# Altium footprint library PcbLib1.PcbLib: 1 footprints
Each footprint in its own frame and in the unit in brackets; x right, y up, seen from the top. Pads: shape width x height; smd on the part's side, far side on the other; paste and mask are expansions set on the pad; w line width, h text height; cw(c..) or ccw(c..) is an arc to the next point about the centre after c.
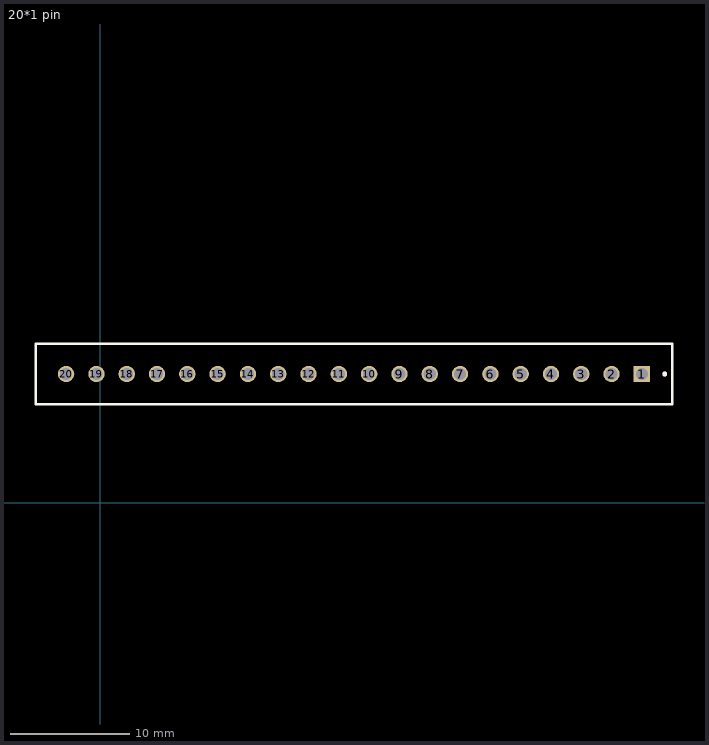
[diagram p0: the footprint, top view; thin cyan lines are the x and y axes]

## 20*1 pin [mm]
pads (20):
  rect 1.37x1.37 hole 1.02: 1(45.396,10.802)
  round 1.37 hole 1.02: 2(42.856,10.802) 3(40.316,10.802) 4(37.776,10.802) 5(35.236,10.802) 6(32.696,10.802) 7(30.156,10.802) 8(27.616,10.802) 9(25.076,10.802) 10(22.536,10.802) 11(19.996,10.802) 12(17.456,10.802) 13(14.916,10.802) 14(12.376,10.802) 15(9.836,10.802) 16(7.296,10.802) 17(4.756,10.802) 18(2.216,10.802) 19(-0.324,10.802) 20(-2.864,10.802)
Top Overlay:
  circle w0.2: c47.316,10.802 r0.1
  lines w0.2: -5.404,8.262 -5.404,13.342 47.936,13.342 47.936,8.262 -5.404,8.262
Mechanical 13:
  circle w0.2: c47.316,10.802 r0.1
3D body "5-644456-0.stp": height 2.79, standoff -10.03, extent -3.66,9.652 46.84,11.989